# Altium integrated library Linear Technology Power Management LDO Linear Regulators.IntLib: 2339 symbols (part 26 of 131)
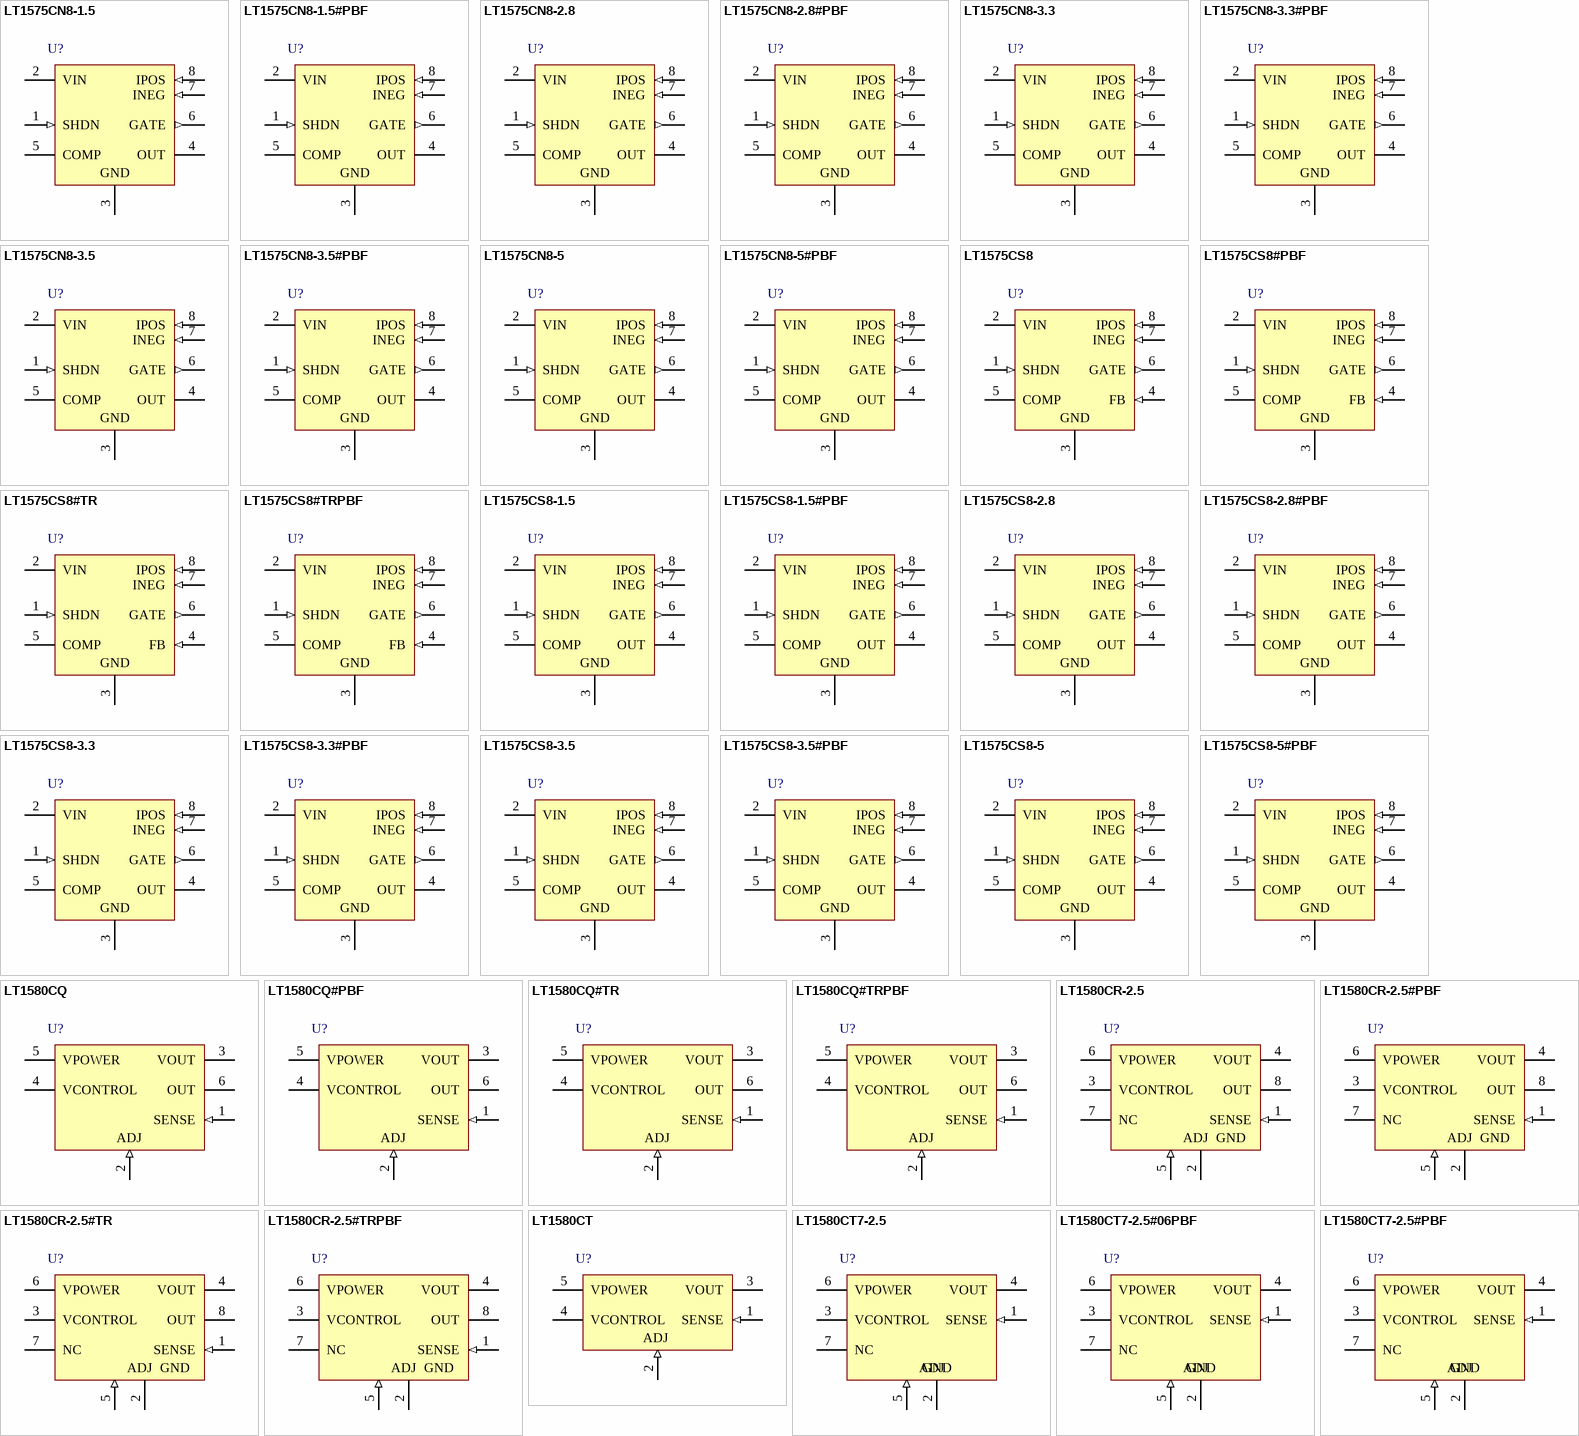
[diagram p94: symbols LT1575CN8-1.5 to LT1580CT7-2.5#PBF]

## LT1575CS8-3.3
designator U?
Ultrafast Transient Response, Low Dropout Regulator, 10 to 20 V Vin, 3.3 Vout, 8-pin SOIC (S8-8), 0 to 70 degC; Manufacturer: Linear Technology; PartNumber: LT1575CS8-3.3; Discrete Pass Element: yes; Iout(mA): 1; Isupply(mA): 12; Output Voltage: 3.3; Vin Max(V): 20; Vin Min(V): 10; PackageVersion: Rev. G, 03/2012; PackageReference: S8-8; PackageDescription: 8-Pin Plastic Small Outline (Narrow .150 Inch), Body 4.9 x 3.9 mm, Pitch 1.27 mm; Supplier 1: Digi-Key; Supplier Part Number 1: LT1575CS8-3.3-ND; Number of Outputs: 1; RoHS: FALSE; Mounting Technology: Surface Mount; ComponentLink1Description: Manufacturer URL; ComponentLink1URL: http://www.linear.com/; ComponentLink2Description: Datasheet; ComponentLink2URL: http://cds.linear.com/docs/en/datasheet/15757f.pdf; ComponentLink3Description: Package Specification; ComponentLink3URL: http://cds.linear.com/docs/en/packaging/05081610_G_SO8.pdf
footprint LT-S8-8_N (SOIC, 8-Leads, Body 4.9x3.9mm, Pitch 1.27mm, IPC Medium Density)
footprint LT-S8-8_L (SOIC, 8-Leads, Body 4.9x3.9mm, Pitch 1.27mm, IPC High Density)
footprint LT-S8-8_M (SOIC, 8-Leads, Body 4.9x3.9mm, Pitch 1.27mm, IPC Low Density)
pins: 1 SHDN (in) "This is a multifunction shutdown pin that provides GATE drive latchoff capability. A 15uA current source, that turns on when current limit is activated, charges a capacitor placed in series with SHDN to GND and performs a (See Datasheet)", 2 VIN (power) "This is the input supply for the IC that powers the majority of internal circuitry and provides sufficient gate drive compliance for the external N-channel MOSFET. The typical supply voltage is 12V with 12.5mA of quiescent (See Datasheet)", 3 GND (power) "Analog Ground. This pin is also the negative sense terminal for the internal 1.21V reference. Connect external feedback divider networks that terminate to GND and frequency compensation components that terminate to GND (See Datasheet)", 4 OUT (power) "This is the inverting input of the error amplifier for the fixed voltage LT1575. The fixed voltage parts contain a precision resistor divider network to set output voltage. The typical resistor divider current is 1mA into (See Datasheet)", 5 COMP "This is the high impedance gain node of the error amplifier and is used for external frequency compensation. The transconductance of the error amplifier is 15 millimhos and open-loop voltage gain is typically 84dB. Frequency (See Datasheet)", 6 GATE (out) "This is the output of the error amplifier that drives N-channel MOSFETs with up to 5000pF of “effective?gate capacitance. The typical open-loop output impedance is 2ohm. When using low input capacitance MOSF(See Datasheet)", 7 INEG (in) "This is the negative sense terminal of the current limit amplifier. A small sense resistor is connected in series with the drain of the external MOSFET and is connected between the IPOS and INEG pins. A 50mV threshold (See Datasheet)", 8 IPOS (in) "This is the positive sense terminal of the current limit amplifier. Tie this pin directly to the main input voltage from which the output voltage is regulated. The typical input voltage is a 5V logic supply. This pin is also (See Datasheet)"

## LT1575CS8-3.3#PBF
designator U?
Ultrafast Transient Response, Low Dropout Regulator, 10 to 20 V Vin, 3.3 Vout, 8-pin SOIC (S8-8), 0 to 70 degC, Pb-Free; Manufacturer: Linear Technology; PartNumber: LT1575CS8-3.3#PBF; Discrete Pass Element: yes; Iout(mA): 1; Isupply(mA): 12; Output Voltage: 3.3; Vin Max(V): 20; Vin Min(V): 10; PackageVersion: Rev. G, 03/2012; PackageReference: S8-8; PackageDescription: 8-Pin Plastic Small Outline (Narrow .150 Inch), Body 4.9 x 3.9 mm, Pitch 1.27 mm; Supplier 1: Digi-Key; Supplier Part Number 1: LT1575CS8-3.3#PBF-ND; Number of Outputs: 1; RoHS: TRUE; Mounting Technology: Surface Mount; ComponentLink1Description: Manufacturer URL; ComponentLink1URL: http://www.linear.com/; ComponentLink2Description: Datasheet; ComponentLink2URL: http://cds.linear.com/docs/en/datasheet/15757f.pdf; ComponentLink3Description: Package Specification; ComponentLink3URL: http://cds.linear.com/docs/en/packaging/05081610_G_SO8.pdf
footprint LT-S8-8_N (SOIC, 8-Leads, Body 4.9x3.9mm, Pitch 1.27mm, IPC Medium Density)
footprint LT-S8-8_L (SOIC, 8-Leads, Body 4.9x3.9mm, Pitch 1.27mm, IPC High Density)
footprint LT-S8-8_M (SOIC, 8-Leads, Body 4.9x3.9mm, Pitch 1.27mm, IPC Low Density)
pins: 1 SHDN (in) "This is a multifunction shutdown pin that provides GATE drive latchoff capability. A 15uA current source, that turns on when current limit is activated, charges a capacitor placed in series with SHDN to GND and performs a (See Datasheet)", 2 VIN (power) "This is the input supply for the IC that powers the majority of internal circuitry and provides sufficient gate drive compliance for the external N-channel MOSFET. The typical supply voltage is 12V with 12.5mA of quiescent (See Datasheet)", 3 GND (power) "Analog Ground. This pin is also the negative sense terminal for the internal 1.21V reference. Connect external feedback divider networks that terminate to GND and frequency compensation components that terminate to GND (See Datasheet)", 4 OUT (power) "This is the inverting input of the error amplifier for the fixed voltage LT1575. The fixed voltage parts contain a precision resistor divider network to set output voltage. The typical resistor divider current is 1mA into (See Datasheet)", 5 COMP "This is the high impedance gain node of the error amplifier and is used for external frequency compensation. The transconductance of the error amplifier is 15 millimhos and open-loop voltage gain is typically 84dB. Frequency (See Datasheet)", 6 GATE (out) "This is the output of the error amplifier that drives N-channel MOSFETs with up to 5000pF of “effective?gate capacitance. The typical open-loop output impedance is 2ohm. When using low input capacitance MOSF(See Datasheet)", 7 INEG (in) "This is the negative sense terminal of the current limit amplifier. A small sense resistor is connected in series with the drain of the external MOSFET and is connected between the IPOS and INEG pins. A 50mV threshold (See Datasheet)", 8 IPOS (in) "This is the positive sense terminal of the current limit amplifier. Tie this pin directly to the main input voltage from which the output voltage is regulated. The typical input voltage is a 5V logic supply. This pin is also (See Datasheet)"

## LT1575CS8-3.5
designator U?
Ultrafast Transient Response, Low Dropout Regulator, 10 to 20 V Vin, 3.5 Vout, 8-pin SOIC (S8-8), 0 to 70 degC; Manufacturer: Linear Technology; PartNumber: LT1575CS8-3.5; Discrete Pass Element: yes; Iout(mA): 1; Isupply(mA): 12; Output Voltage: 3.5; Vin Max(V): 20; Vin Min(V): 10; PackageVersion: Rev. G, 03/2012; PackageReference: S8-8; PackageDescription: 8-Pin Plastic Small Outline (Narrow .150 Inch), Body 4.9 x 3.9 mm, Pitch 1.27 mm; Number of Outputs: 1; RoHS: FALSE; Mounting Technology: Surface Mount; ComponentLink1Description: Manufacturer URL; ComponentLink1URL: http://www.linear.com/; ComponentLink2Description: Datasheet; ComponentLink2URL: http://cds.linear.com/docs/en/datasheet/15757f.pdf; ComponentLink3Description: Package Specification; ComponentLink3URL: http://cds.linear.com/docs/en/packaging/05081610_G_SO8.pdf
footprint LT-S8-8_N (SOIC, 8-Leads, Body 4.9x3.9mm, Pitch 1.27mm, IPC Medium Density)
footprint LT-S8-8_L (SOIC, 8-Leads, Body 4.9x3.9mm, Pitch 1.27mm, IPC High Density)
footprint LT-S8-8_M (SOIC, 8-Leads, Body 4.9x3.9mm, Pitch 1.27mm, IPC Low Density)
pins: 1 SHDN (in) "This is a multifunction shutdown pin that provides GATE drive latchoff capability. A 15uA current source, that turns on when current limit is activated, charges a capacitor placed in series with SHDN to GND and performs a (See Datasheet)", 2 VIN (power) "This is the input supply for the IC that powers the majority of internal circuitry and provides sufficient gate drive compliance for the external N-channel MOSFET. The typical supply voltage is 12V with 12.5mA of quiescent (See Datasheet)", 3 GND (power) "Analog Ground. This pin is also the negative sense terminal for the internal 1.21V reference. Connect external feedback divider networks that terminate to GND and frequency compensation components that terminate to GND (See Datasheet)", 4 OUT (power) "This is the inverting input of the error amplifier for the fixed voltage LT1575. The fixed voltage parts contain a precision resistor divider network to set output voltage. The typical resistor divider current is 1mA into (See Datasheet)", 5 COMP "This is the high impedance gain node of the error amplifier and is used for external frequency compensation. The transconductance of the error amplifier is 15 millimhos and open-loop voltage gain is typically 84dB. Frequency (See Datasheet)", 6 GATE (out) "This is the output of the error amplifier that drives N-channel MOSFETs with up to 5000pF of “effective?gate capacitance. The typical open-loop output impedance is 2ohm. When using low input capacitance MOSF(See Datasheet)", 7 INEG (in) "This is the negative sense terminal of the current limit amplifier. A small sense resistor is connected in series with the drain of the external MOSFET and is connected between the IPOS and INEG pins. A 50mV threshold (See Datasheet)", 8 IPOS (in) "This is the positive sense terminal of the current limit amplifier. Tie this pin directly to the main input voltage from which the output voltage is regulated. The typical input voltage is a 5V logic supply. This pin is also (See Datasheet)"

## LT1575CS8-3.5#PBF
designator U?
Ultrafast Transient Response, Low Dropout Regulator, 10 to 20 V Vin, 3.5 Vout, 8-pin SOIC (S8-8), 0 to 70 degC, Pb-Free; Manufacturer: Linear Technology; PartNumber: LT1575CS8-3.5#PBF; Discrete Pass Element: yes; Iout(mA): 1; Isupply(mA): 12; Output Voltage: 3.5; Vin Max(V): 20; Vin Min(V): 10; PackageVersion: Rev. G, 03/2012; PackageReference: S8-8; PackageDescription: 8-Pin Plastic Small Outline (Narrow .150 Inch), Body 4.9 x 3.9 mm, Pitch 1.27 mm; Supplier 1: Digi-Key; Supplier Part Number 1: LT1575CS8-3.5#PBF-ND; Number of Outputs: 1; RoHS: TRUE; Mounting Technology: Surface Mount; ComponentLink1Description: Manufacturer URL; ComponentLink1URL: http://www.linear.com/; ComponentLink2Description: Datasheet; ComponentLink2URL: http://cds.linear.com/docs/en/datasheet/15757f.pdf; ComponentLink3Description: Package Specification; ComponentLink3URL: http://cds.linear.com/docs/en/packaging/05081610_G_SO8.pdf
footprint LT-S8-8_N (SOIC, 8-Leads, Body 4.9x3.9mm, Pitch 1.27mm, IPC Medium Density)
footprint LT-S8-8_L (SOIC, 8-Leads, Body 4.9x3.9mm, Pitch 1.27mm, IPC High Density)
footprint LT-S8-8_M (SOIC, 8-Leads, Body 4.9x3.9mm, Pitch 1.27mm, IPC Low Density)
pins: 1 SHDN (in) "This is a multifunction shutdown pin that provides GATE drive latchoff capability. A 15uA current source, that turns on when current limit is activated, charges a capacitor placed in series with SHDN to GND and performs a (See Datasheet)", 2 VIN (power) "This is the input supply for the IC that powers the majority of internal circuitry and provides sufficient gate drive compliance for the external N-channel MOSFET. The typical supply voltage is 12V with 12.5mA of quiescent (See Datasheet)", 3 GND (power) "Analog Ground. This pin is also the negative sense terminal for the internal 1.21V reference. Connect external feedback divider networks that terminate to GND and frequency compensation components that terminate to GND (See Datasheet)", 4 OUT (power) "This is the inverting input of the error amplifier for the fixed voltage LT1575. The fixed voltage parts contain a precision resistor divider network to set output voltage. The typical resistor divider current is 1mA into (See Datasheet)", 5 COMP "This is the high impedance gain node of the error amplifier and is used for external frequency compensation. The transconductance of the error amplifier is 15 millimhos and open-loop voltage gain is typically 84dB. Frequency (See Datasheet)", 6 GATE (out) "This is the output of the error amplifier that drives N-channel MOSFETs with up to 5000pF of “effective?gate capacitance. The typical open-loop output impedance is 2ohm. When using low input capacitance MOSF(See Datasheet)", 7 INEG (in) "This is the negative sense terminal of the current limit amplifier. A small sense resistor is connected in series with the drain of the external MOSFET and is connected between the IPOS and INEG pins. A 50mV threshold (See Datasheet)", 8 IPOS (in) "This is the positive sense terminal of the current limit amplifier. Tie this pin directly to the main input voltage from which the output voltage is regulated. The typical input voltage is a 5V logic supply. This pin is also (See Datasheet)"

## LT1575CS8-5
designator U?
Ultrafast Transient Response, Low Dropout Regulator, 10 to 20 V Vin, 5 Vout, 8-pin SOIC (S8-8), 0 to 70 degC; Manufacturer: Linear Technology; PartNumber: LT1575CS8-5; Discrete Pass Element: yes; Iout(mA): 1; Isupply(mA): 12; Output Voltage: 5; Vin Max(V): 20; Vin Min(V): 10; PackageVersion: Rev. G, 03/2012; PackageReference: S8-8; PackageDescription: 8-Pin Plastic Small Outline (Narrow .150 Inch), Body 4.9 x 3.9 mm, Pitch 1.27 mm; Supplier 1: Digi-Key; Supplier Part Number 1: LT1575CS8-5-ND; Number of Outputs: 1; RoHS: FALSE; Mounting Technology: Surface Mount; ComponentLink1Description: Manufacturer URL; ComponentLink1URL: http://www.linear.com/; ComponentLink2Description: Datasheet; ComponentLink2URL: http://cds.linear.com/docs/en/datasheet/15757f.pdf; ComponentLink3Description: Package Specification; ComponentLink3URL: http://cds.linear.com/docs/en/packaging/05081610_G_SO8.pdf
footprint LT-S8-8_N (SOIC, 8-Leads, Body 4.9x3.9mm, Pitch 1.27mm, IPC Medium Density)
footprint LT-S8-8_L (SOIC, 8-Leads, Body 4.9x3.9mm, Pitch 1.27mm, IPC High Density)
footprint LT-S8-8_M (SOIC, 8-Leads, Body 4.9x3.9mm, Pitch 1.27mm, IPC Low Density)
pins: 1 SHDN (in) "This is a multifunction shutdown pin that provides GATE drive latchoff capability. A 15uA current source, that turns on when current limit is activated, charges a capacitor placed in series with SHDN to GND and performs a (See Datasheet)", 2 VIN (power) "This is the input supply for the IC that powers the majority of internal circuitry and provides sufficient gate drive compliance for the external N-channel MOSFET. The typical supply voltage is 12V with 12.5mA of quiescent (See Datasheet)", 3 GND (power) "Analog Ground. This pin is also the negative sense terminal for the internal 1.21V reference. Connect external feedback divider networks that terminate to GND and frequency compensation components that terminate to GND (See Datasheet)", 4 OUT (power) "This is the inverting input of the error amplifier for the fixed voltage LT1575. The fixed voltage parts contain a precision resistor divider network to set output voltage. The typical resistor divider current is 1mA into (See Datasheet)", 5 COMP "This is the high impedance gain node of the error amplifier and is used for external frequency compensation. The transconductance of the error amplifier is 15 millimhos and open-loop voltage gain is typically 84dB. Frequency (See Datasheet)", 6 GATE (out) "This is the output of the error amplifier that drives N-channel MOSFETs with up to 5000pF of “effective?gate capacitance. The typical open-loop output impedance is 2ohm. When using low input capacitance MOSF(See Datasheet)", 7 INEG (in) "This is the negative sense terminal of the current limit amplifier. A small sense resistor is connected in series with the drain of the external MOSFET and is connected between the IPOS and INEG pins. A 50mV threshold (See Datasheet)", 8 IPOS (in) "This is the positive sense terminal of the current limit amplifier. Tie this pin directly to the main input voltage from which the output voltage is regulated. The typical input voltage is a 5V logic supply. This pin is also (See Datasheet)"

## LT1575CS8-5#PBF
designator U?
Ultrafast Transient Response, Low Dropout Regulator, 10 to 20 V Vin, 5 Vout, 8-pin SOIC (S8-8), 0 to 70 degC, Pb-Free; Manufacturer: Linear Technology; PartNumber: LT1575CS8-5#PBF; Discrete Pass Element: yes; Iout(mA): 1; Isupply(mA): 12; Output Voltage: 5; Vin Max(V): 20; Vin Min(V): 10; PackageVersion: Rev. G, 03/2012; PackageReference: S8-8; PackageDescription: 8-Pin Plastic Small Outline (Narrow .150 Inch), Body 4.9 x 3.9 mm, Pitch 1.27 mm; Supplier 1: Digi-Key; Supplier Part Number 1: LT1575CS8-5#PBF-ND; Supplier 2: Newark; Supplier Part Number 2: 57M4931; Number of Outputs: 1; RoHS: TRUE; Mounting Technology: Surface Mount; ComponentLink1Description: Manufacturer URL; ComponentLink1URL: http://www.linear.com/; ComponentLink2Description: Datasheet; ComponentLink2URL: http://cds.linear.com/docs/en/datasheet/15757f.pdf; ComponentLink3Description: Package Specification; ComponentLink3URL: http://cds.linear.com/docs/en/packaging/05081610_G_SO8.pdf
footprint LT-S8-8_N (SOIC, 8-Leads, Body 4.9x3.9mm, Pitch 1.27mm, IPC Medium Density)
footprint LT-S8-8_L (SOIC, 8-Leads, Body 4.9x3.9mm, Pitch 1.27mm, IPC High Density)
footprint LT-S8-8_M (SOIC, 8-Leads, Body 4.9x3.9mm, Pitch 1.27mm, IPC Low Density)
pins: 1 SHDN (in) "This is a multifunction shutdown pin that provides GATE drive latchoff capability. A 15uA current source, that turns on when current limit is activated, charges a capacitor placed in series with SHDN to GND and performs a (See Datasheet)", 2 VIN (power) "This is the input supply for the IC that powers the majority of internal circuitry and provides sufficient gate drive compliance for the external N-channel MOSFET. The typical supply voltage is 12V with 12.5mA of quiescent (See Datasheet)", 3 GND (power) "Analog Ground. This pin is also the negative sense terminal for the internal 1.21V reference. Connect external feedback divider networks that terminate to GND and frequency compensation components that terminate to GND (See Datasheet)", 4 OUT (power) "This is the inverting input of the error amplifier for the fixed voltage LT1575. The fixed voltage parts contain a precision resistor divider network to set output voltage. The typical resistor divider current is 1mA into (See Datasheet)", 5 COMP "This is the high impedance gain node of the error amplifier and is used for external frequency compensation. The transconductance of the error amplifier is 15 millimhos and open-loop voltage gain is typically 84dB. Frequency (See Datasheet)", 6 GATE (out) "This is the output of the error amplifier that drives N-channel MOSFETs with up to 5000pF of “effective?gate capacitance. The typical open-loop output impedance is 2ohm. When using low input capacitance MOSF(See Datasheet)", 7 INEG (in) "This is the negative sense terminal of the current limit amplifier. A small sense resistor is connected in series with the drain of the external MOSFET and is connected between the IPOS and INEG pins. A 50mV threshold (See Datasheet)", 8 IPOS (in) "This is the positive sense terminal of the current limit amplifier. Tie this pin directly to the main input voltage from which the output voltage is regulated. The typical input voltage is a 5V logic supply. This pin is also (See Datasheet)"

## LT1580CQ
designator U?
7 A, Very Low Dropout Regulator, 1.79 to 6 V Vin, Adjustable Vout, 5-pin DPAK (Q-5), 0 to 150 degC; Manufacturer: Linear Technology; PartNumber: LT1580CQ; Discrete Pass Element: no; Dropout Voltage(V): 0.54; Iout(mA): 7000; Isupply(mA): 10; Number of Outputs: 1; Output Voltage: Adj; Vin Max(V): 6; Vin Min(V): 1.79; Vout Max(V): 4.65; Vout Min(V): 1.25; DatasheetVersion: Rev. A; PackageVersion: Rev. F, 09/2011; PackageReference: Q-5; PackageDescription: 5-Pin Plastic DD Pak, Body 10.2235 x 8.89 mm, Pitch 1.702 mm; Supplier 1: Digi-Key; Supplier Part Number 1: LT1580CQ-ND; Supplier 2: Newark; Supplier Part Number 2: 57M5055; RoHS: FALSE; Mounting Technology: Surface Mount; ComponentLink1Description: Manufacturer URL; ComponentLink1URL: http://www.linear.com/; ComponentLink2Description: Datasheet; ComponentLink2URL: http://cds.linear.com/docs/en/datasheet/158025fas.pdf; ComponentLink3Description: Package Specification; ComponentLink3URL: http://cds.linear.com/docs/en/packaging/Q%20DD5%2005-08-1461%20Rev%20F.pdf
footprint LT-Q-5_N (DPAK, 5-Leads, Body 10.22x8.89mm, Pitch 1.702mm, IPC Medium Density)
footprint LT-Q-5_L (DPAK, 5-Leads, Body 10.22x8.89mm, Pitch 1.702mm, IPC High Density)
footprint LT-Q-5_M (DPAK, 5-Leads, Body 10.22x8.89mm, Pitch 1.702mm, IPC Low Density)
pins: 1 SENSE (in) "This pin is the positive side of the reference voltage for the device. With this pin it is possible to Kelvin sense the output voltage at the load.", 2 ADJ (in) "This pin is the negative side of the reference voltage for the device. Transient response can be improved by adding a small bypass capacitor from the ADJ pin to ground. For fixed voltage devices the ADJ pin is also brought (See Datasheet)", 3 VOUT (power) "This is the power output of the device.", 4 VCONTROL (power) "This pin is the supply pin for the control circuitry of the device. The current flow into this pin will be about 1% of the output current. For the device to regulate, the voltage at this pin must be between 1.0V and 1.3V (See Datasheet)", 5 VPOWER (power) "This is the collector to the power device of the LT1580. The output load current is supplied through this pin. For the device to regulate, the voltage at this pin must be between 0.1V and 0.8V greater than the output voltage (See Datasheet)", 6 OUT (power)

## LT1580CQ#PBF
designator U?
7 A, Very Low Dropout Regulator, 1.79 to 6 V Vin, Adjustable Vout, 5-pin DPAK (Q-5), 0 to 150 degC, Pb-Free; Manufacturer: Linear Technology; PartNumber: LT1580CQ#PBF; Discrete Pass Element: no; Dropout Voltage(V): 0.54; Iout(mA): 7000; Isupply(mA): 10; Number of Outputs: 1; Output Voltage: Adj; Vin Max(V): 6; Vin Min(V): 1.79; Vout Max(V): 4.65; Vout Min(V): 1.25; DatasheetVersion: Rev. A; PackageVersion: Rev. F, 09/2011; PackageReference: Q-5; PackageDescription: 5-Pin Plastic DD Pak, Body 10.2235 x 8.89 mm, Pitch 1.702 mm; Supplier 1: Digi-Key; Supplier Part Number 1: LT1580CQ#PBF-ND; Supplier 2: Farnell; Supplier Part Number 2: 2308586; Supplier 3: Newark; Supplier Part Number 3: 57M5056; RoHS: TRUE; Mounting Technology: Surface Mount; ComponentLink1Description: Manufacturer URL; ComponentLink1URL: http://www.linear.com/; ComponentLink2Description: Datasheet; ComponentLink2URL: http://cds.linear.com/docs/en/datasheet/158025fas.pdf; ComponentLink3Description: Package Specification; ComponentLink3URL: http://cds.linear.com/docs/en/packaging/Q%20DD5%2005-08-1461%20Rev%20F.pdf
footprint LT-Q-5_N (DPAK, 5-Leads, Body 10.22x8.89mm, Pitch 1.702mm, IPC Medium Density)
footprint LT-Q-5_L (DPAK, 5-Leads, Body 10.22x8.89mm, Pitch 1.702mm, IPC High Density)
footprint LT-Q-5_M (DPAK, 5-Leads, Body 10.22x8.89mm, Pitch 1.702mm, IPC Low Density)
pins: 1 SENSE (in) "This pin is the positive side of the reference voltage for the device. With this pin it is possible to Kelvin sense the output voltage at the load.", 2 ADJ (in) "This pin is the negative side of the reference voltage for the device. Transient response can be improved by adding a small bypass capacitor from the ADJ pin to ground. For fixed voltage devices the ADJ pin is also brought (See Datasheet)", 3 VOUT (power) "This is the power output of the device.", 4 VCONTROL (power) "This pin is the supply pin for the control circuitry of the device. The current flow into this pin will be about 1% of the output current. For the device to regulate, the voltage at this pin must be between 1.0V and 1.3V (See Datasheet)", 5 VPOWER (power) "This is the collector to the power device of the LT1580. The output load current is supplied through this pin. For the device to regulate, the voltage at this pin must be between 0.1V and 0.8V greater than the output voltage (See Datasheet)", 6 OUT (power)

## LT1580CQ#TR
designator U?
7 A, Very Low Dropout Regulator, 1.79 to 6 V Vin, Adjustable Vout, 5-pin DPAK (Q-5), 0 to 150 degC, Tape and Reel; Manufacturer: Linear Technology; PartNumber: LT1580CQ#TR; Discrete Pass Element: no; Dropout Voltage(V): 0.54; Iout(mA): 7000; Isupply(mA): 10; Number of Outputs: 1; Output Voltage: Adj; Vin Max(V): 6; Vin Min(V): 1.79; Vout Max(V): 4.65; Vout Min(V): 1.25; DatasheetVersion: Rev. A; PackageVersion: Rev. F, 09/2011; PackageReference: Q-5; PackageDescription: 5-Pin Plastic DD Pak, Body 10.2235 x 8.89 mm, Pitch 1.702 mm; Supplier 1: Digi-Key; Supplier Part Number 1: LT1580CQ#TR-ND; Packing: Tape and Reel; RoHS: FALSE; Mounting Technology: Surface Mount; ComponentLink1Description: Manufacturer URL; ComponentLink1URL: http://www.linear.com/; ComponentLink2Description: Datasheet; ComponentLink2URL: http://cds.linear.com/docs/en/datasheet/158025fas.pdf; ComponentLink3Description: Package Specification; ComponentLink3URL: http://cds.linear.com/docs/en/packaging/Q%20DD5%2005-08-1461%20Rev%20F.pdf
footprint LT-Q-5_N (DPAK, 5-Leads, Body 10.22x8.89mm, Pitch 1.702mm, IPC Medium Density)
footprint LT-Q-5_L (DPAK, 5-Leads, Body 10.22x8.89mm, Pitch 1.702mm, IPC High Density)
footprint LT-Q-5_M (DPAK, 5-Leads, Body 10.22x8.89mm, Pitch 1.702mm, IPC Low Density)
pins: 1 SENSE (in) "This pin is the positive side of the reference voltage for the device. With this pin it is possible to Kelvin sense the output voltage at the load.", 2 ADJ (in) "This pin is the negative side of the reference voltage for the device. Transient response can be improved by adding a small bypass capacitor from the ADJ pin to ground. For fixed voltage devices the ADJ pin is also brought (See Datasheet)", 3 VOUT (power) "This is the power output of the device.", 4 VCONTROL (power) "This pin is the supply pin for the control circuitry of the device. The current flow into this pin will be about 1% of the output current. For the device to regulate, the voltage at this pin must be between 1.0V and 1.3V (See Datasheet)", 5 VPOWER (power) "This is the collector to the power device of the LT1580. The output load current is supplied through this pin. For the device to regulate, the voltage at this pin must be between 0.1V and 0.8V greater than the output voltage (See Datasheet)", 6 OUT (power)

## LT1580CQ#TRPBF
designator U?
7 A, Very Low Dropout Regulator, 1.79 to 6 V Vin, Adjustable Vout, 5-pin DPAK (Q-5), 0 to 150 degC, Pb-Free, Tape and Reel; Manufacturer: Linear Technology; PartNumber: LT1580CQ#TRPBF; Discrete Pass Element: no; Dropout Voltage(V): 0.54; Iout(mA): 7000; Isupply(mA): 10; Number of Outputs: 1; Output Voltage: Adj; Vin Max(V): 6; Vin Min(V): 1.79; Vout Max(V): 4.65; Vout Min(V): 1.25; DatasheetVersion: Rev. A; PackageVersion: Rev. F, 09/2011; PackageReference: Q-5; PackageDescription: 5-Pin Plastic DD Pak, Body 10.2235 x 8.89 mm, Pitch 1.702 mm; Supplier 1: Digi-Key; Supplier Part Number 1: LT1580CQ#TRPBF-ND; Supplier 2: Newark; Supplier Part Number 2: 57M5058; Packing: Tape and Reel; RoHS: TRUE; Mounting Technology: Surface Mount; ComponentLink1Description: Manufacturer URL; ComponentLink1URL: http://www.linear.com/; ComponentLink2Description: Datasheet; ComponentLink2URL: http://cds.linear.com/docs/en/datasheet/158025fas.pdf; ComponentLink3Description: Package Specification; ComponentLink3URL: http://cds.linear.com/docs/en/packaging/Q%20DD5%2005-08-1461%20Rev%20F.pdf
footprint LT-Q-5_N (DPAK, 5-Leads, Body 10.22x8.89mm, Pitch 1.702mm, IPC Medium Density)
footprint LT-Q-5_L (DPAK, 5-Leads, Body 10.22x8.89mm, Pitch 1.702mm, IPC High Density)
footprint LT-Q-5_M (DPAK, 5-Leads, Body 10.22x8.89mm, Pitch 1.702mm, IPC Low Density)
pins: 1 SENSE (in) "This pin is the positive side of the reference voltage for the device. With this pin it is possible to Kelvin sense the output voltage at the load.", 2 ADJ (in) "This pin is the negative side of the reference voltage for the device. Transient response can be improved by adding a small bypass capacitor from the ADJ pin to ground. For fixed voltage devices the ADJ pin is also brought (See Datasheet)", 3 VOUT (power) "This is the power output of the device.", 4 VCONTROL (power) "This pin is the supply pin for the control circuitry of the device. The current flow into this pin will be about 1% of the output current. For the device to regulate, the voltage at this pin must be between 1.0V and 1.3V (See Datasheet)", 5 VPOWER (power) "This is the collector to the power device of the LT1580. The output load current is supplied through this pin. For the device to regulate, the voltage at this pin must be between 0.1V and 0.8V greater than the output voltage (See Datasheet)", 6 OUT (power)

## LT1580CR-2.5
designator U?
7 A, Very Low Dropout Regulator, 1.79 to 6 V Vin, 2.5 V Vout, 7-pin DPAK (R-7), 0 to 150 degC; Manufacturer: Linear Technology; PartNumber: LT1580CR-2.5; Discrete Pass Element: no; Dropout Voltage(V): 0.54; Iout(mA): 7000; Isupply(mA): 10; Number of Outputs: 1; Output Voltage: 2.5 V; Vin Max(V): 6; Vin Min(V): 1.79; DatasheetVersion: Rev. A; PackageVersion: Rev. F, 05/2012; PackageReference: R-7; PackageDescription: 7-Pin Plastic DD Pak, Body 10.2235 x 8.89 mm, Pitch 1.27 mm; Supplier 1: Digi-Key; Supplier Part Number 1: LT1580CR-2.5-ND; RoHS: FALSE; Mounting Technology: Surface Mount; ComponentLink1Description: Manufacturer URL; ComponentLink1URL: http://www.linear.com/; ComponentLink2Description: Datasheet; ComponentLink2URL: http://cds.linear.com/docs/en/datasheet/158025fas.pdf; ComponentLink3Description: Package Specification; ComponentLink3URL: http://cds.linear.com/docs/en/packaging/05081462_F_R.pdf
footprint LT-R-7_N (DPAK, 7-Leads, Body 10.224x8.89mm, Pitch 1.27mm, IPC Medium Density)
footprint LT-R-7_L (DPAK, 7-Leads, Body 10.224x8.89mm, Pitch 1.27mm, IPC High Density)
footprint LT-R-7_M (DPAK, 7-Leads, Body 10.224x8.89mm, Pitch 1.27mm, IPC Low Density)
pins: 1 SENSE (in) "This pin is the positive side of the reference voltage for the device. With this pin it is possible to Kelvin sense the output voltage at the load.", 2 GND (power) "For fixed voltage devices this is the bottom of the resistor divider that sets the output voltage.", 3 VCONTROL (power) "This pin is the supply pin for the control circuitry of the device. The current flow into this pin will be about 1% of the output current. For the device to regulate, the voltage at this pin must be between 1.0V and 1.3V (See Datasheet)", 4 VOUT (power) "This is the power output of the device.", 5 ADJ (in) "This pin is the negative side of the reference voltage for the device. Transient response can be improved by adding a small bypass capacitor from the ADJ pin to ground. For fixed voltage devices the ADJ pin is also brought (See Datasheet)", 6 VPOWER (power) "This is the collector to the power device of the LT1580. The output load current is supplied through this pin. For the device to regulate, the voltage at this pin must be between 0.1V and 0.8V greater than the output voltage (See Datasheet)", 7 NC, 8 OUT (power)

## LT1580CR-2.5#PBF
designator U?
7 A, Very Low Dropout Regulator, 1.79 to 6 V Vin, 2.5 V Vout, 7-pin DPAK (R-7), 0 to 150 degC, Pb-Free; Manufacturer: Linear Technology; PartNumber: LT1580CR-2.5#PBF; Discrete Pass Element: no; Dropout Voltage(V): 0.54; Iout(mA): 7000; Isupply(mA): 10; Number of Outputs: 1; Output Voltage: 2.5 V; Vin Max(V): 6; Vin Min(V): 1.79; DatasheetVersion: Rev. A; PackageVersion: Rev. F, 05/2012; PackageReference: R-7; PackageDescription: 7-Pin Plastic DD Pak, Body 10.2235 x 8.89 mm, Pitch 1.27 mm; Supplier 1: Digi-Key; Supplier Part Number 1: LT1580CR-2.5#PBF-ND; Supplier 2: Farnell; Supplier Part Number 2: 2252781; Supplier 3: Newark; Supplier Part Number 3: 57M5060; RoHS: TRUE; Mounting Technology: Surface Mount; ComponentLink1Description: Manufacturer URL; ComponentLink1URL: http://www.linear.com/; ComponentLink2Description: Datasheet; ComponentLink2URL: http://cds.linear.com/docs/en/datasheet/158025fas.pdf; ComponentLink3Description: Package Specification; ComponentLink3URL: http://cds.linear.com/docs/en/packaging/05081462_F_R.pdf
footprint LT-R-7_N (DPAK, 7-Leads, Body 10.224x8.89mm, Pitch 1.27mm, IPC Medium Density)
footprint LT-R-7_L (DPAK, 7-Leads, Body 10.224x8.89mm, Pitch 1.27mm, IPC High Density)
footprint LT-R-7_M (DPAK, 7-Leads, Body 10.224x8.89mm, Pitch 1.27mm, IPC Low Density)
pins: 1 SENSE (in) "This pin is the positive side of the reference voltage for the device. With this pin it is possible to Kelvin sense the output voltage at the load.", 2 GND (power) "For fixed voltage devices this is the bottom of the resistor divider that sets the output voltage.", 3 VCONTROL (power) "This pin is the supply pin for the control circuitry of the device. The current flow into this pin will be about 1% of the output current. For the device to regulate, the voltage at this pin must be between 1.0V and 1.3V (See Datasheet)", 4 VOUT (power) "This is the power output of the device.", 5 ADJ (in) "This pin is the negative side of the reference voltage for the device. Transient response can be improved by adding a small bypass capacitor from the ADJ pin to ground. For fixed voltage devices the ADJ pin is also brought (See Datasheet)", 6 VPOWER (power) "This is the collector to the power device of the LT1580. The output load current is supplied through this pin. For the device to regulate, the voltage at this pin must be between 0.1V and 0.8V greater than the output voltage (See Datasheet)", 7 NC, 8 OUT (power)

## LT1580CR-2.5#TR
designator U?
7 A, Very Low Dropout Regulator, 1.79 to 6 V Vin, 2.5 V Vout, 7-pin DPAK (R-7), 0 to 150 degC, Tape and Reel; Manufacturer: Linear Technology; PartNumber: LT1580CR-2.5#TR; Discrete Pass Element: no; Dropout Voltage(V): 0.54; Iout(mA): 7000; Isupply(mA): 10; Number of Outputs: 1; Output Voltage: 2.5 V; Vin Max(V): 6; Vin Min(V): 1.79; DatasheetVersion: Rev. A; PackageVersion: Rev. F, 05/2012; PackageReference: R-7; PackageDescription: 7-Pin Plastic DD Pak, Body 10.2235 x 8.89 mm, Pitch 1.27 mm; Supplier 1: Digi-Key; Supplier Part Number 1: LT1580CR-2.5#TR-ND; Packing: Tape and Reel; RoHS: FALSE; Mounting Technology: Surface Mount; ComponentLink1Description: Manufacturer URL; ComponentLink1URL: http://www.linear.com/; ComponentLink2Description: Datasheet; ComponentLink2URL: http://cds.linear.com/docs/en/datasheet/158025fas.pdf; ComponentLink3Description: Package Specification; ComponentLink3URL: http://cds.linear.com/docs/en/packaging/05081462_F_R.pdf
footprint LT-R-7_N (DPAK, 7-Leads, Body 10.224x8.89mm, Pitch 1.27mm, IPC Medium Density)
footprint LT-R-7_L (DPAK, 7-Leads, Body 10.224x8.89mm, Pitch 1.27mm, IPC High Density)
footprint LT-R-7_M (DPAK, 7-Leads, Body 10.224x8.89mm, Pitch 1.27mm, IPC Low Density)
pins: 1 SENSE (in) "This pin is the positive side of the reference voltage for the device. With this pin it is possible to Kelvin sense the output voltage at the load.", 2 GND (power) "For fixed voltage devices this is the bottom of the resistor divider that sets the output voltage.", 3 VCONTROL (power) "This pin is the supply pin for the control circuitry of the device. The current flow into this pin will be about 1% of the output current. For the device to regulate, the voltage at this pin must be between 1.0V and 1.3V (See Datasheet)", 4 VOUT (power) "This is the power output of the device.", 5 ADJ (in) "This pin is the negative side of the reference voltage for the device. Transient response can be improved by adding a small bypass capacitor from the ADJ pin to ground. For fixed voltage devices the ADJ pin is also brought (See Datasheet)", 6 VPOWER (power) "This is the collector to the power device of the LT1580. The output load current is supplied through this pin. For the device to regulate, the voltage at this pin must be between 0.1V and 0.8V greater than the output voltage (See Datasheet)", 7 NC, 8 OUT (power)

## LT1580CR-2.5#TRPBF
designator U?
7 A, Very Low Dropout Regulator, 1.79 to 6 V Vin, 2.5 V Vout, 7-pin DPAK (R-7), 0 to 150 degC, Pb-Free, Tape and Reel; Manufacturer: Linear Technology; PartNumber: LT1580CR-2.5#TRPBF; Discrete Pass Element: no; Dropout Voltage(V): 0.54; Iout(mA): 7000; Isupply(mA): 10; Number of Outputs: 1; Output Voltage: 2.5 V; Vin Max(V): 6; Vin Min(V): 1.79; DatasheetVersion: Rev. A; PackageVersion: Rev. F, 05/2012; PackageReference: R-7; PackageDescription: 7-Pin Plastic DD Pak, Body 10.2235 x 8.89 mm, Pitch 1.27 mm; Supplier 1: Digi-Key; Supplier Part Number 1: LT1580CR-2.5#TRPBF-ND; Packing: Tape and Reel; RoHS: TRUE; Mounting Technology: Surface Mount; ComponentLink1Description: Manufacturer URL; ComponentLink1URL: http://www.linear.com/; ComponentLink2Description: Datasheet; ComponentLink2URL: http://cds.linear.com/docs/en/datasheet/158025fas.pdf; ComponentLink3Description: Package Specification; ComponentLink3URL: http://cds.linear.com/docs/en/packaging/05081462_F_R.pdf
footprint LT-R-7_N (DPAK, 7-Leads, Body 10.224x8.89mm, Pitch 1.27mm, IPC Medium Density)
footprint LT-R-7_L (DPAK, 7-Leads, Body 10.224x8.89mm, Pitch 1.27mm, IPC High Density)
footprint LT-R-7_M (DPAK, 7-Leads, Body 10.224x8.89mm, Pitch 1.27mm, IPC Low Density)
pins: 1 SENSE (in) "This pin is the positive side of the reference voltage for the device. With this pin it is possible to Kelvin sense the output voltage at the load.", 2 GND (power) "For fixed voltage devices this is the bottom of the resistor divider that sets the output voltage.", 3 VCONTROL (power) "This pin is the supply pin for the control circuitry of the device. The current flow into this pin will be about 1% of the output current. For the device to regulate, the voltage at this pin must be between 1.0V and 1.3V (See Datasheet)", 4 VOUT (power) "This is the power output of the device.", 5 ADJ (in) "This pin is the negative side of the reference voltage for the device. Transient response can be improved by adding a small bypass capacitor from the ADJ pin to ground. For fixed voltage devices the ADJ pin is also brought (See Datasheet)", 6 VPOWER (power) "This is the collector to the power device of the LT1580. The output load current is supplied through this pin. For the device to regulate, the voltage at this pin must be between 0.1V and 0.8V greater than the output voltage (See Datasheet)", 7 NC, 8 OUT (power)

## LT1580CT
designator U?
7 A, Very Low Dropout Regulator, 1.79 to 6 V Vin, Adjustable Vout, 5-pin FM (T-5), 0 to 150 degC; Manufacturer: Linear Technology; PartNumber: LT1580CT; Discrete Pass Element: no; Dropout Voltage(V): 0.54; Iout(mA): 7000; Isupply(mA): 10; Number of Outputs: 1; Output Voltage: Adj; Vin Max(V): 6; Vin Min(V): 1.79; Vout Max(V): 4.65; Vout Min(V): 1.25; DatasheetVersion: Rev. A; PackageVersion: Aug-10; PackageReference: T-5; PackageDescription: 5-Pin Plastic TO-220 (Standard), Body 10.224 x 8.89 mm, Pitch 1.7 mm; Supplier 1: Digi-Key; Supplier Part Number 1: LT1580CT-ND; RoHS: FALSE; Mounting Technology: Through Hole; ComponentLink1Description: Manufacturer URL; ComponentLink1URL: http://www.linear.com/; ComponentLink2Description: Datasheet; ComponentLink2URL: http://cds.linear.com/docs/en/datasheet/158025fas.pdf; ComponentLink3Description: Package Specification; ComponentLink3URL: http://cds.linear.com/docs/en/packaging/TO-220_5_05-08-1421.pdf
footprint LT-T-5-S (FM, 5-Leads, Body 10.2235x4.3815mm, Pitch 1.7mm)
pins: 1 SENSE (in) "This pin is the positive side of the reference voltage for the device. With this pin it is possible to Kelvin sense the output voltage at the load.", 2 ADJ (in) "This pin is the negative side of the reference voltage for the device. Transient response can be improved by adding a small bypass capacitor from the ADJ pin to ground. For fixed voltage devices the ADJ pin is also brought (See Datasheet)", 3 VOUT (power) "This is the power output of the device.", 4 VCONTROL (power) "This pin is the supply pin for the control circuitry of the device. The current flow into this pin will be about 1% of the output current. For the device to regulate, the voltage at this pin must be between 1.0V and 1.3V (See Datasheet)", 5 VPOWER (power) "This is the collector to the power device of the LT1580. The output load current is supplied through this pin. For the device to regulate, the voltage at this pin must be between 0.1V and 0.8V greater than the output voltage (See Datasheet)"

## LT1580CT7-2.5
designator U?
7 A, Very Low Dropout Regulator, 1.79 to 6 V Vin, 2.5 V Vout, 7-pin FM (T7-7), 0 to 150 degC; Manufacturer: Linear Technology; PartNumber: LT1580CT7-2.5; Discrete Pass Element: no; Dropout Voltage(V): 0.54; Iout(mA): 7000; Isupply(mA): 10; Number of Outputs: 1; Output Voltage: 2.5 V; Vin Max(V): 6; Vin Min(V): 1.79; DatasheetVersion: Rev. A; PackageVersion: Jun-10; PackageReference: T7-7; PackageDescription: 7-Pin Plastic TO-220 (Straight Lead), Body 10.224 x 4.382 mm, Pitch 1.27 mm; Supplier 1: Digi-Key; Supplier Part Number 1: LT1580CT7-2.5-ND; RoHS: FALSE; Mounting Technology: Through Hole; ComponentLink1Description: Manufacturer URL; ComponentLink1URL: http://www.linear.com/; ComponentLink2Description: Datasheet; ComponentLink2URL: http://cds.linear.com/docs/en/datasheet/158025fas.pdf; ComponentLink3Description: Package Specification; ComponentLink3URL: http://www.linear.com/docs/en/packaging/TO-220_7_05-08-1422_STRAIGHT_LEAD.pdf
footprint LT-T7-7-S_V (FM, 7-Leads, Body 10.55x4.6mm, Pitch 1.27mm)
pins: 1 SENSE (in) "This pin is the positive side of the reference voltage for the device. With this pin it is possible to Kelvin sense the output voltage at the load.", 2 GND (power) "For fixed voltage devices this is the bottom of the resistor divider that sets the output voltage.", 3 VCONTROL (power) "This pin is the supply pin for the control circuitry of the device. The current flow into this pin will be about 1% of the output current. For the device to regulate, the voltage at this pin must be between 1.0V and 1.3V (See Datasheet)", 4 VOUT (power) "This is the power output of the device.", 5 ADJ (in) "This pin is the negative side of the reference voltage for the device. Transient response can be improved by adding a small bypass capacitor from the ADJ pin to ground. For fixed voltage devices the ADJ pin is also brought (See Datasheet)", 6 VPOWER (power) "This is the collector to the power device of the LT1580. The output load current is supplied through this pin. For the device to regulate, the voltage at this pin must be between 0.1V and 0.8V greater than the output voltage (See Datasheet)", 7 NC

## LT1580CT7-2.5#06PBF
designator U?
7 A, Very Low Dropout Regulator, 1.79 to 6 V Vin, 2.5 V Vout, 7-pin FM (T7-7), 0 to 150 degC, Pb-Free; Manufacturer: Linear Technology; PartNumber: LT1580CT7-2.5#06PBF; Discrete Pass Element: no; Dropout Voltage(V): 0.54; Iout(mA): 7000; Isupply(mA): 10; Number of Outputs: 1; Output Voltage: 2.5 V; Vin Max(V): 6; Vin Min(V): 1.79; DatasheetVersion: Rev. A; PackageVersion: Jun-10; PackageReference: T7-7; PackageDescription: 7-Pin Plastic TO-220 (Straight Lead), Body 10.224 x 4.382 mm, Pitch 1.27 mm; Supplier 1: Digi-Key; Supplier Part Number 1: LT1580CT7-2.5#06PBF-ND; RoHS: TRUE; Mounting Technology: Through Hole; ComponentLink1Description: Manufacturer URL; ComponentLink1URL: http://www.linear.com/; ComponentLink2Description: Datasheet; ComponentLink2URL: http://cds.linear.com/docs/en/datasheet/158025fas.pdf; ComponentLink3Description: Package Specification; ComponentLink3URL: http://www.linear.com/docs/en/packaging/TO-220_7_05-08-1422_STRAIGHT_LEAD.pdf
footprint LT-T7-7-S_V (FM, 7-Leads, Body 10.55x4.6mm, Pitch 1.27mm)
pins: 1 SENSE (in) "This pin is the positive side of the reference voltage for the device. With this pin it is possible to Kelvin sense the output voltage at the load.", 2 GND (power) "For fixed voltage devices this is the bottom of the resistor divider that sets the output voltage.", 3 VCONTROL (power) "This pin is the supply pin for the control circuitry of the device. The current flow into this pin will be about 1% of the output current. For the device to regulate, the voltage at this pin must be between 1.0V and 1.3V (See Datasheet)", 4 VOUT (power) "This is the power output of the device.", 5 ADJ (in) "This pin is the negative side of the reference voltage for the device. Transient response can be improved by adding a small bypass capacitor from the ADJ pin to ground. For fixed voltage devices the ADJ pin is also brought (See Datasheet)", 6 VPOWER (power) "This is the collector to the power device of the LT1580. The output load current is supplied through this pin. For the device to regulate, the voltage at this pin must be between 0.1V and 0.8V greater than the output voltage (See Datasheet)", 7 NC

## LT1580CT7-2.5#PBF
designator U?
7 A, Very Low Dropout Regulator, 1.79 to 6 V Vin, 2.5 V Vout, 7-pin FM (T7-7), 0 to 150 degC, Pb-Free; Manufacturer: Linear Technology; PartNumber: LT1580CT7-2.5#PBF; Discrete Pass Element: no; Dropout Voltage(V): 0.54; Iout(mA): 7000; Isupply(mA): 10; Number of Outputs: 1; Output Voltage: 2.5 V; Vin Max(V): 6; Vin Min(V): 1.79; DatasheetVersion: Rev. A; PackageVersion: Jun-10; PackageReference: T7-7; PackageDescription: 7-Pin Plastic TO-220 (Straight Lead), Body 10.224 x 4.382 mm, Pitch 1.27 mm; Supplier 1: Digi-Key; Supplier Part Number 1: LT1580CT7-2.5#PBF-ND; RoHS: TRUE; Mounting Technology: Through Hole; ComponentLink1Description: Manufacturer URL; ComponentLink1URL: http://www.linear.com/; ComponentLink2Description: Datasheet; ComponentLink2URL: http://cds.linear.com/docs/en/datasheet/158025fas.pdf; ComponentLink3Description: Package Specification; ComponentLink3URL: http://www.linear.com/docs/en/packaging/TO-220_7_05-08-1422_STRAIGHT_LEAD.pdf
footprint LT-T7-7-S_V (FM, 7-Leads, Body 10.55x4.6mm, Pitch 1.27mm)
pins: 1 SENSE (in) "This pin is the positive side of the reference voltage for the device. With this pin it is possible to Kelvin sense the output voltage at the load.", 2 GND (power) "For fixed voltage devices this is the bottom of the resistor divider that sets the output voltage.", 3 VCONTROL (power) "This pin is the supply pin for the control circuitry of the device. The current flow into this pin will be about 1% of the output current. For the device to regulate, the voltage at this pin must be between 1.0V and 1.3V (See Datasheet)", 4 VOUT (power) "This is the power output of the device.", 5 ADJ (in) "This pin is the negative side of the reference voltage for the device. Transient response can be improved by adding a small bypass capacitor from the ADJ pin to ground. For fixed voltage devices the ADJ pin is also brought (See Datasheet)", 6 VPOWER (power) "This is the collector to the power device of the LT1580. The output load current is supplied through this pin. For the device to regulate, the voltage at this pin must be between 0.1V and 0.8V greater than the output voltage (See Datasheet)", 7 NC

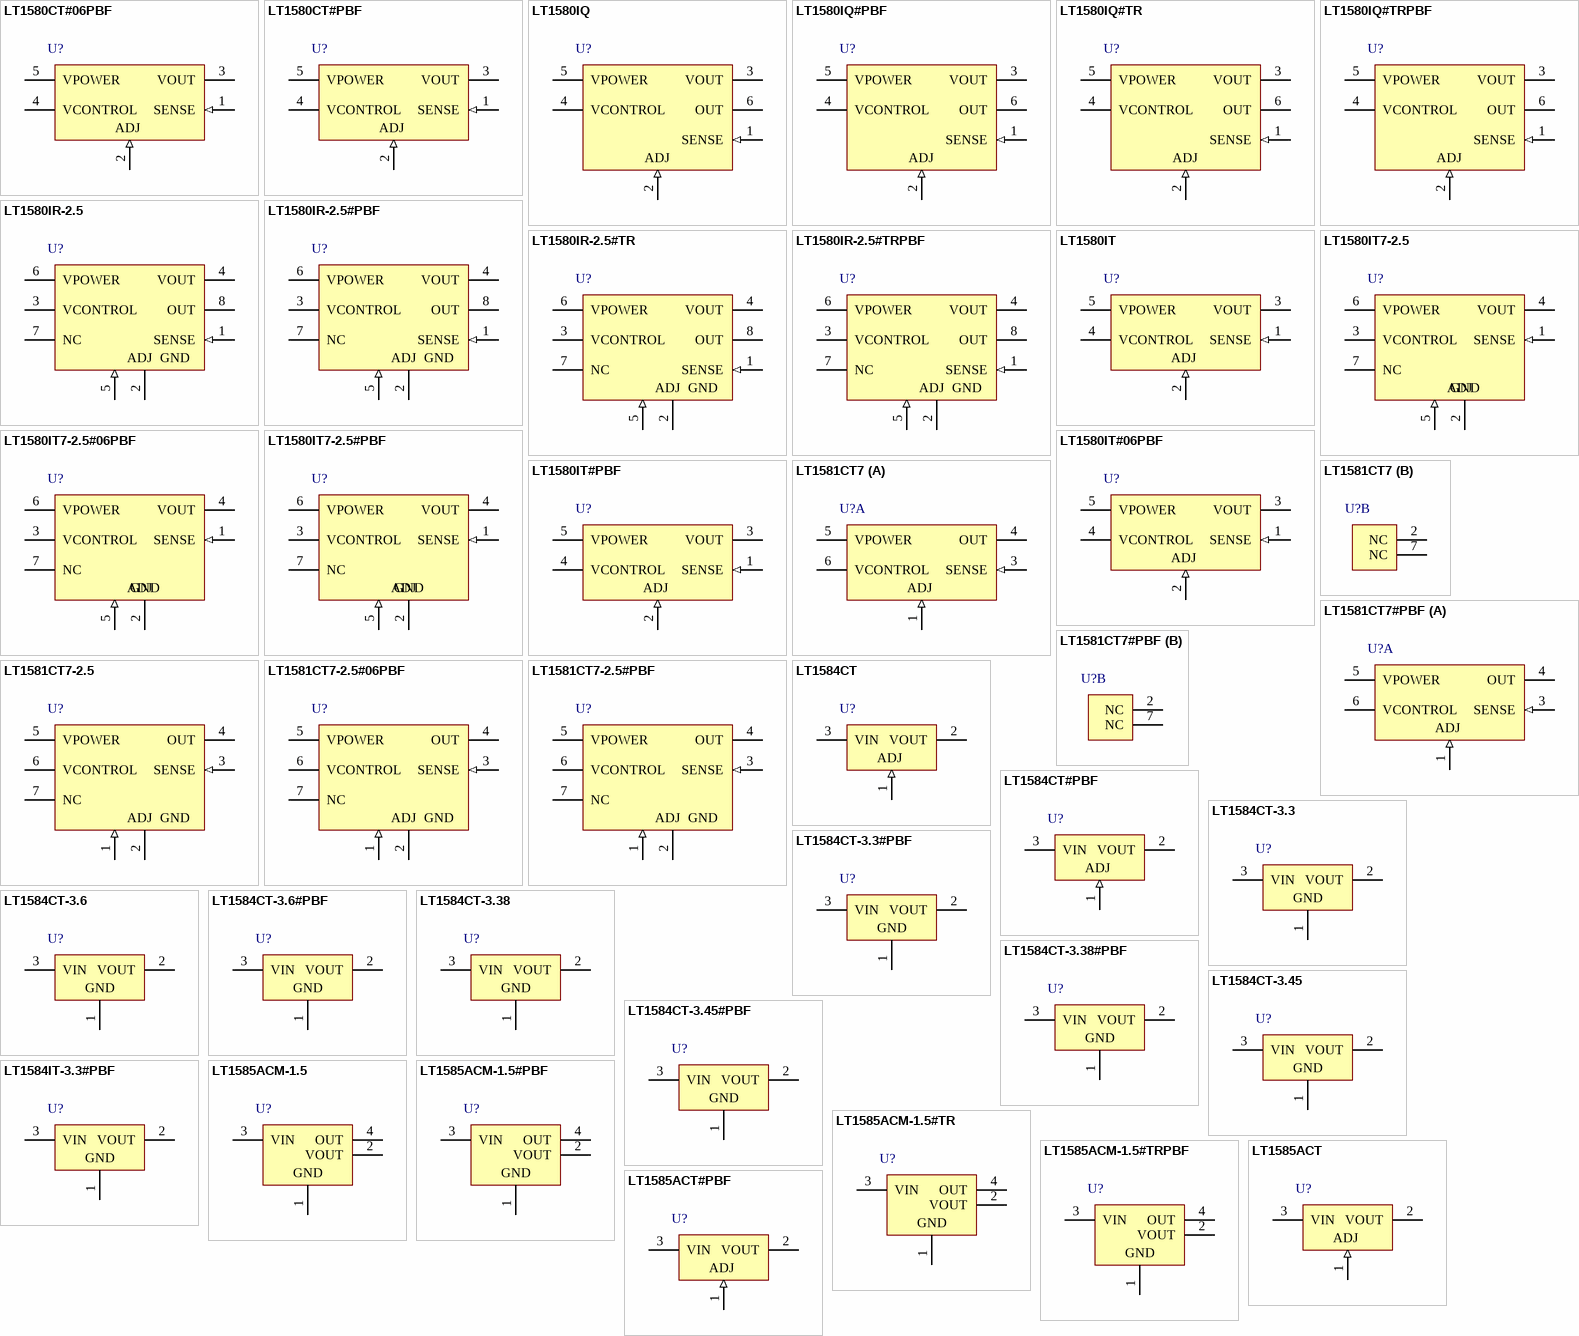
[diagram p18: symbols LT1580CT#06PBF to LT1585ACT#PBF]

## LT1580CT#06PBF
designator U?
7 A, Very Low Dropout Regulator, 1.79 to 6 V Vin, Adjustable Vout, 5-pin FM (T-5), 0 to 150 degC, Pb-Free; Manufacturer: Linear Technology; PartNumber: LT1580CT#06PBF; Discrete Pass Element: no; Dropout Voltage(V): 0.54; Iout(mA): 7000; Isupply(mA): 10; Number of Outputs: 1; Output Voltage: Adj; Vin Max(V): 6; Vin Min(V): 1.79; Vout Max(V): 4.65; Vout Min(V): 1.25; DatasheetVersion: Rev. A; PackageVersion: Aug-10; PackageReference: T-5; PackageDescription: 5-Pin Plastic TO-220 (Standard), Body 10.224 x 8.89 mm, Pitch 1.7 mm; Supplier 1: Digi-Key; Supplier Part Number 1: LT1580CT#06PBF-ND; RoHS: TRUE; Mounting Technology: Through Hole; ComponentLink1Description: Manufacturer URL; ComponentLink1URL: http://www.linear.com/; ComponentLink2Description: Datasheet; ComponentLink2URL: http://cds.linear.com/docs/en/datasheet/158025fas.pdf; ComponentLink3Description: Package Specification; ComponentLink3URL: http://cds.linear.com/docs/en/packaging/TO-220_5_05-08-1421.pdf
footprint LT-T-5-S (FM, 5-Leads, Body 10.2235x4.3815mm, Pitch 1.7mm)
pins: 1 SENSE (in) "This pin is the positive side of the reference voltage for the device. With this pin it is possible to Kelvin sense the output voltage at the load.", 2 ADJ (in) "This pin is the negative side of the reference voltage for the device. Transient response can be improved by adding a small bypass capacitor from the ADJ pin to ground. For fixed voltage devices the ADJ pin is also brought (See Datasheet)", 3 VOUT (power) "This is the power output of the device.", 4 VCONTROL (power) "This pin is the supply pin for the control circuitry of the device. The current flow into this pin will be about 1% of the output current. For the device to regulate, the voltage at this pin must be between 1.0V and 1.3V (See Datasheet)", 5 VPOWER (power) "This is the collector to the power device of the LT1580. The output load current is supplied through this pin. For the device to regulate, the voltage at this pin must be between 0.1V and 0.8V greater than the output voltage (See Datasheet)"